# Altium footprint library GlecerLib.PcbLib: 38 footprints (part 1 of 3)
Each footprint in its own frame and in the unit in brackets; x right, y up, seen from the top. Pads: shape width x height; smd on the part's side, far side on the other; paste and mask are expansions set on the pad; w line width, h text height; cw(c..) or ccw(c..) is an arc to the next point about the centre after c.
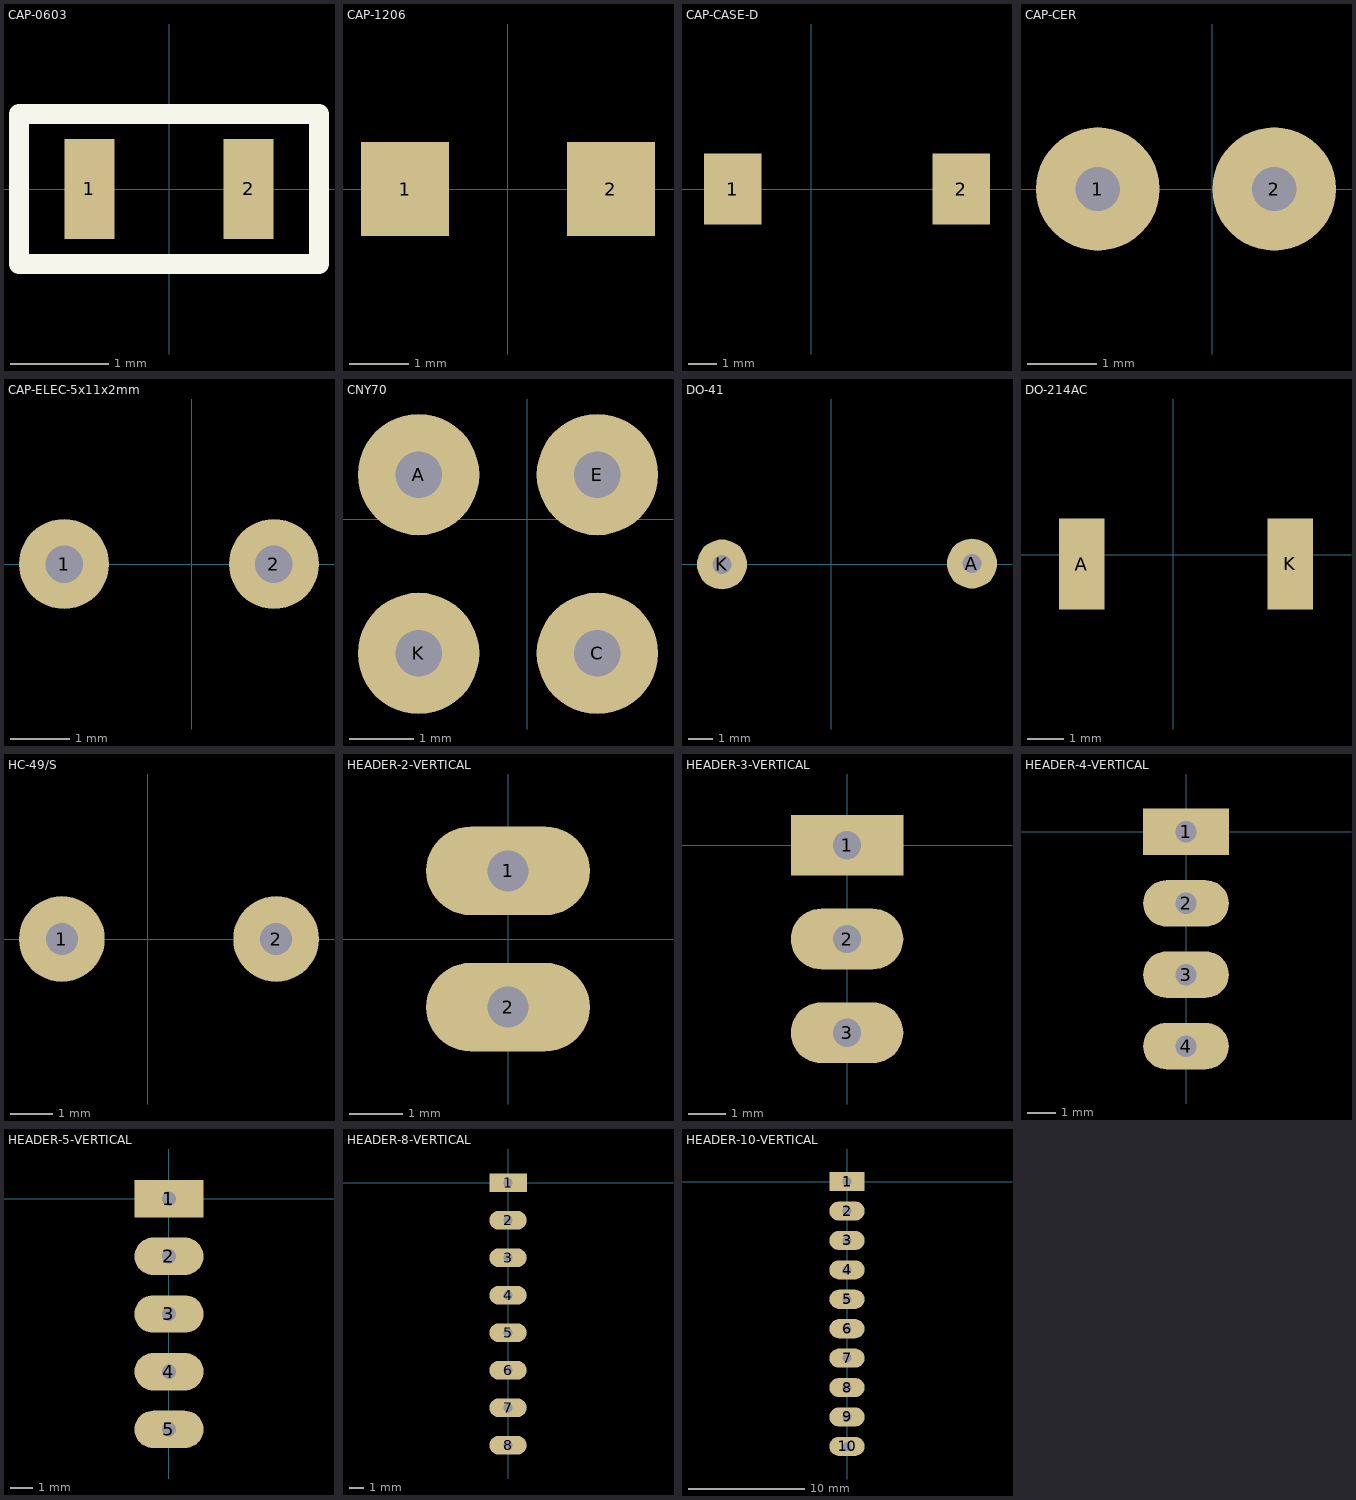
[diagram p0: the footprints below, top view; thin cyan lines are the x and y axes]

## CAP-0603 [mil]
pads (2):
  rect 20x40 smd: 1(-31.89,0) 2(31.89,0)
Top Overlay:
  lines w8: -60,-30 60,-30 60,30 -60,30 -60,-30
3D body "User Library-0603 SMD Capacitor.step": height 11.89, standoff 0, extent -31.49,-15.74 31.5,15.75

## CAP-1206 [mm]
pads (2):
  rect 1.5x1.6 smd: 1(-1.75,0) 2(1.75,0)
3D body "User Library-1206 SMD Capacitor.step": height 1.26, standoff 0.25, extent -1.6,-0.762 1.6,0.838

## CAP-CASE-D [mil]
pads (2):
  rect 80x100 smd: 1(-110,0) 2(210,0)
3D body "User Library-Tantalum Cap Case D.step": height 110.24, standoff 0, extent -90.55,-84.64 190.56,84.65

## CAP-CER [mil]
pads (2):
  round 70 hole 25: 1(-65,0) 2(35,0)
3D body "User Library-Ceramic Capacitor 5x3_75mm.step": height 206.79, standoff -145.91, extent -106.8,-44.37 86.79,34.37

## CAP-ELEC-5x11x2mm [mil]
pads (2):
  round 60 hole 25: 1(-85,0) 2(55,0)
3D body "User Library-Cap electro 5x11x2mm.step": height 453.76, standoff -128.81, extent -114.42,-99.42 84.43,99.43

## CNY70 [mm]
pads (4):
  round 1.9 hole 0.73: A(-1.7,0.7) C(1.1,-2.1) E(1.1,0.7) K(-1.7,-2.1)
3D body "User Library-cny70.step": height 6, standoff -5, extent -3.8,-4.467 3.2,2.5

## DO-41 [mil]
pads (2):
  round 80 hole 30: A(224.99,1.45) K(-175,0)
3D body "User Library-DO-41-2.step": height 107.09, standoff -102.36, extent -192.01,-52.08 242.01,55

## DO-214AC [mil]
pads (2):
  rect 50x100 smd: A(-100,-10) K(128.01,-9.99)
3D body "User Library-DO-214AC(SMA).step": height 95, standoff 5, extent -87.99,-64.99 128.01,45

## FINGRTECH_MOTOR_W_WHEEL [mil]
3D body "Spark_mount_R1.stp": height 770.11, standoff 0, extent 0,-319.96 750,309.96
3D body "FingerTech_Silver_Spark_11.stp": height 897.65, standoff 2.35, extent -1431.51,-450.33 1711.51,444.96

## HC-49/S [mil]
pads (2):
  round 80 hole 30: 1(-80,0) 2(120,0)
3D body "User Library-HP49US.step": height 137.8, standoff -157.48, extent -203.43,-90 243.43,93.07

## HEADER-2-VERTICAL [mil]
pads (2):
  oval 120x65 hole 30: 1(0,50) 2(0,-50)
3D body "User Library-Header_Male_2Pin.STEP": height 336.22, standoff -118.11, extent -49.01,-99.99 49.01,100.01

## HEADER-3-VERTICAL [mil]
pads (3):
  rect 120x65 hole 30: 1(0,0)
  oval 120x65 hole 30: 2(0,-100) 3(0,-200)
3D body "User Library-Header_Male_3Pin.STEP": height 336.22, standoff -118.11, extent -49.01,-249.99 49.01,50.01

## HEADER-4-VERTICAL [mil]
pads (4):
  rect 120x65 hole 30: 1(0,0)
  oval 120x65 hole 30: 2(0,-100) 3(0,-200) 4(0,-300)
3D body "User Library-Header_Male_4Pin.STEP": height 336.22, standoff -118.11, extent -49.01,-350 49.02,50

## HEADER-5-VERTICAL [mil]
pads (5):
  rect 120x65 hole 25: 1(0,0)
  oval 120x65 hole 25: 2(0,-100) 3(0,-200) 4(0,-300) 5(0,-400)
3D body "User Library-Header_Male_5Pin.STEP": height 336.22, standoff -118.11, extent -49.01,-450 49.02,50

## HEADER-8-VERTICAL [mil]
pads (8):
  rect 100x50 hole 25: 1(0,0)
  oval 100x50 hole 25: 2(0,-100) 3(0,-200) 4(0,-300) 5(0,-400) 6(0,-500) 7(0,-600) 8(0,-700)
3D body "User Library-Header_Male_8Pin.STEP": height 336.22, standoff -118.11, extent -48.03,-750 50,50

## HEADER-10-VERTICAL [mil]
pads (10):
  rect 120x65 hole 30: 1(0,0)
  oval 120x65 hole 30: 2(0,-100) 3(0,-200) 4(0,-300) 5(0,-400) 6(0,-500) 7(0,-600) 8(0,-700) 9(0,-800) 10(0,-900)
3D body "User Library-Header_Male_10Pin.STEP": height 336.22, standoff -118.11, extent -50,-950 48.03,50